# Altium integrated library Renesas Memory.IntLib: 284 symbols (part 7 of 9)
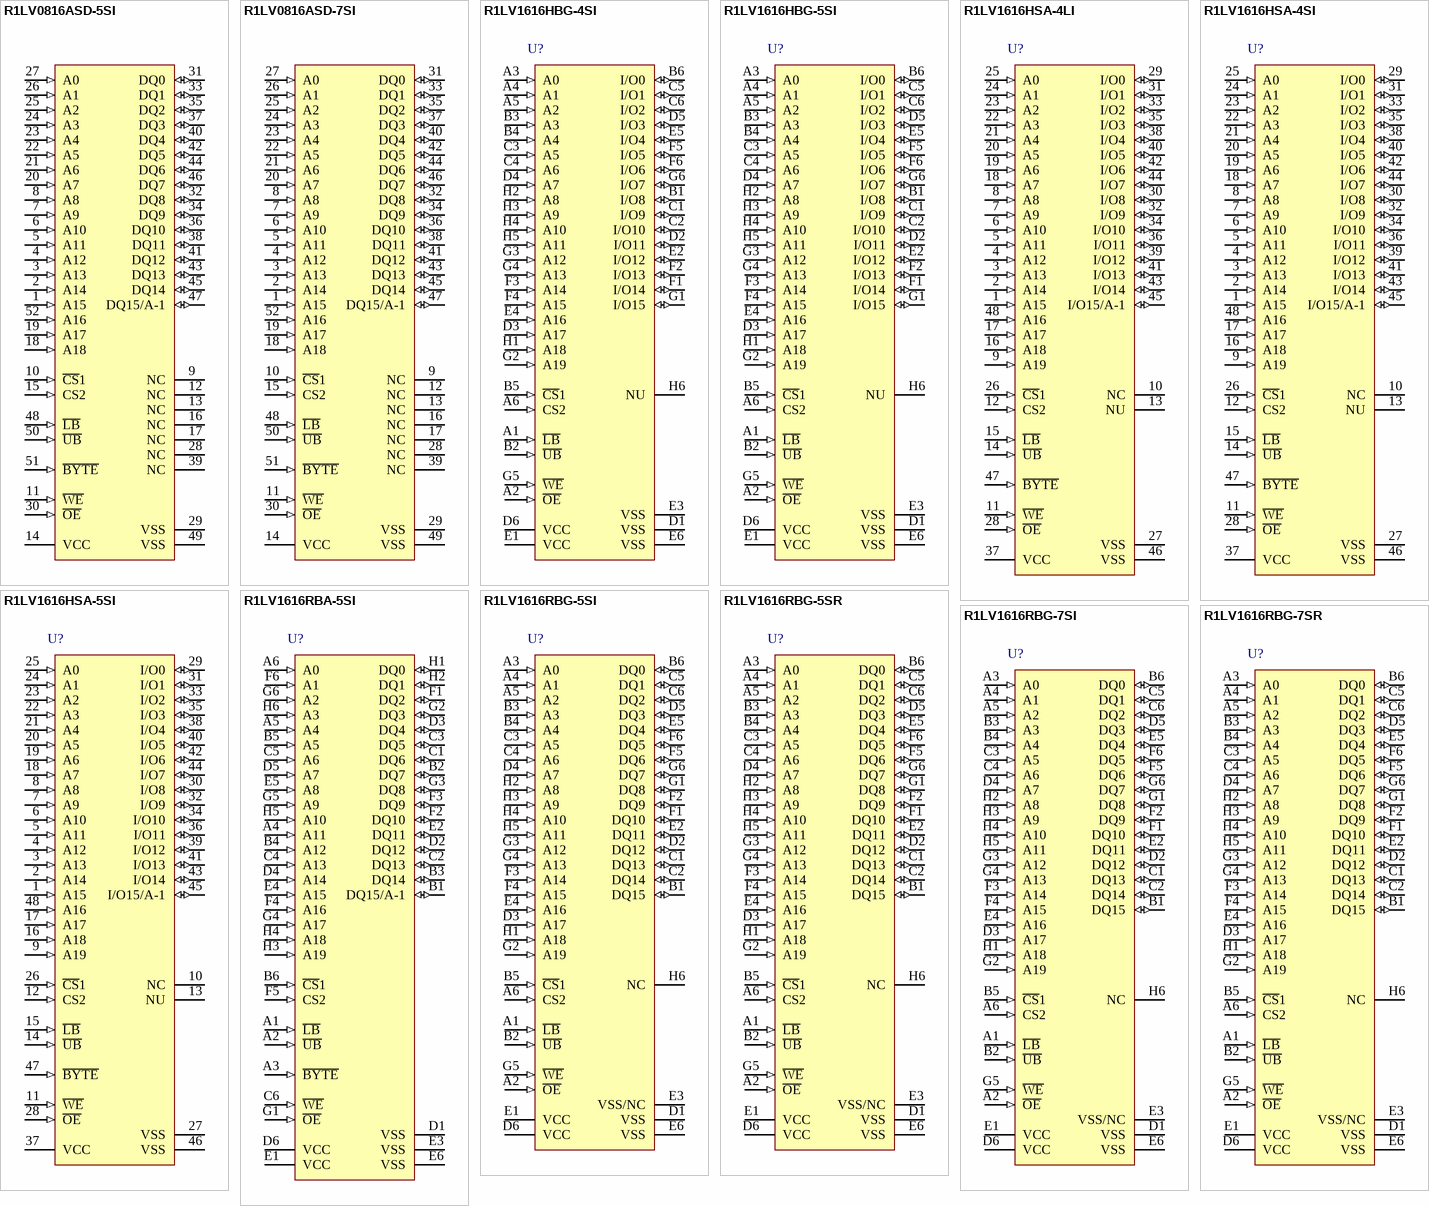
[diagram p21: symbols R1LV0816ASD-5SI to R1LV1616RBG-7SR]

## R1LV1616HSA-4SI
designator U?
R1LV1616H-I Series 16M SRAM (1-Mword x 16-bit / 2-Mword x 8-bit) Wide Temperature Range Version; Published: 3-Mar-2010; DatasheetVersion: Rev.1.01, Nov-2004; PackageVersion: Sep-2005; PackageReference: PTSA0048KA-A; Publisher: Altium Limited; PackageDescription: 48-Pin Plastic Thin Shrink Small Outline Package 0.5 mm Pitch; Code_JEITA: P-TSOP(1)48-12x18.4-0.50; ComponentLink1Description: Manufacturer Link; ComponentLink1URL: http://sg.renesas.com/products/memory/memory_category_landing.jsp; ComponentLink2Description: Datasheet; ComponentLink2URL: http://documentation.renesas.com/eng/products/memory/rej03c0195_r1lv1616hi.pdf; ComponentLink3Description: Packaging Specification; ComponentLink3URL: http://sg.renesas.com/media/products/common_info/package/pdf/ic/code/ptsa0048ka_a.pdf
footprint PTSA0048KA-A_N (TSSOP, 48-Leads, Body 12x18.4mm, Pitch 0.5mm, IPC Medium Density)
footprint PTSA0048KA-A_L (TSSOP, 48-Leads, Body 12x18.4mm, Pitch 0.5mm, IPC High Density)
footprint PTSA0048KA-A_M (TSSOP, 48-Leads, Body 12x18.4mm, Pitch 0.5mm, IPC Low Density)
pins: 1 A15 (in), 2 A14 (in), 3 A13 (in), 4 A12 (in), 5 A11 (in), 6 A10 (in), 7 A9 (in), 8 A8 (in), 9 A19 (in), 10 NC, 11 ~{WE} (in), 12 CS2 (in), 13 NU, 14 ~{UB} (in), 15 ~{LB} (in), 16 A18 (in), 17 A17 (in), 18 A7 (in), 19 A6 (in), 20 A5 (in), 21 A4 (in), 22 A3 (in), 23 A2 (in), 24 A1 (in), 25 A0 (in), 26 ~{CS}1 (in), 27 VSS (power), 28 ~{OE} (in), 29 I/O0 (io), 30 I/O8 (io), 31 I/O1 (io), 32 I/O9 (io), 33 I/O2 (io), 34 I/O10 (io), 35 I/O3 (io), 36 I/O11 (io), 37 VCC (power), 38 I/O4 (io), 39 I/O12 (io), 40 I/O5 (io), 41 I/O13 (io), 42 I/O6 (io), 43 I/O14 (io), 44 I/O7 (io), 45 I/O15/A-1 (io), 46 VSS (power), 47 ~{BYTE} (in), 48 A16 (in)

## R1LV1616HSA-5SI
designator U?
R1LV1616H-I Series 16M SRAM (1-Mword x 16-bit / 2-Mword x 8-bit) Wide Temperature Range Version; Published: 3-Mar-2010; DatasheetVersion: Rev.1.01, Nov-2004; PackageVersion: Sep-2005; PackageReference: PTSA0048KA-A; Publisher: Altium Limited; PackageDescription: 48-Pin Plastic Thin Shrink Small Outline Package 0.5 mm Pitch; Code_JEITA: P-TSOP(1)48-12x18.4-0.50; ComponentLink1Description: Manufacturer Link; ComponentLink1URL: http://sg.renesas.com/products/memory/memory_category_landing.jsp; ComponentLink2Description: Datasheet; ComponentLink2URL: http://documentation.renesas.com/eng/products/memory/rej03c0195_r1lv1616hi.pdf; ComponentLink3Description: Packaging Specification; ComponentLink3URL: http://sg.renesas.com/media/products/common_info/package/pdf/ic/code/ptsa0048ka_a.pdf
footprint PTSA0048KA-A_N (TSSOP, 48-Leads, Body 12x18.4mm, Pitch 0.5mm, IPC Medium Density)
footprint PTSA0048KA-A_L (TSSOP, 48-Leads, Body 12x18.4mm, Pitch 0.5mm, IPC High Density)
footprint PTSA0048KA-A_M (TSSOP, 48-Leads, Body 12x18.4mm, Pitch 0.5mm, IPC Low Density)
pins: 1 A15 (in), 2 A14 (in), 3 A13 (in), 4 A12 (in), 5 A11 (in), 6 A10 (in), 7 A9 (in), 8 A8 (in), 9 A19 (in), 10 NC, 11 ~{WE} (in), 12 CS2 (in), 13 NU, 14 ~{UB} (in), 15 ~{LB} (in), 16 A18 (in), 17 A17 (in), 18 A7 (in), 19 A6 (in), 20 A5 (in), 21 A4 (in), 22 A3 (in), 23 A2 (in), 24 A1 (in), 25 A0 (in), 26 ~{CS}1 (in), 27 VSS (power), 28 ~{OE} (in), 29 I/O0 (io), 30 I/O8 (io), 31 I/O1 (io), 32 I/O9 (io), 33 I/O2 (io), 34 I/O10 (io), 35 I/O3 (io), 36 I/O11 (io), 37 VCC (power), 38 I/O4 (io), 39 I/O12 (io), 40 I/O5 (io), 41 I/O13 (io), 42 I/O6 (io), 43 I/O14 (io), 44 I/O7 (io), 45 I/O15/A-1 (io), 46 VSS (power), 47 ~{BYTE} (in), 48 A16 (in)

## R1LV1616RBA-5SI
designator U?
R1LV1616R Series 16Mb Advanced LPSRAM (1M word x 16-bit / 2M word x 8-bit); Published: 3-Mar-2010; DatasheetVersion: Rev.0.01, Oct-2007; PackageVersion: 2007; PackageReference: SVBG0048ZA-A; Publisher: Altium Limited; PackageDescription: 48-Ball Wafer Level Chip Scale Package 5.62mm x 5.84mm, 0.55 mm Pitch [WL-CSP(48)]; ComponentLink1Description: Manufacturer Link; ComponentLink1URL: http://sg.renesas.com/products/memory/memory_category_landing.jsp; ComponentLink2Description: Datasheet; ComponentLink2URL: http://documentation.renesas.com/eng/products/memory/rej03c0340_r1lv1616rba5sids.pdf
footprint SVBG0048ZA-A (BGA, 48-Leads, Body 5.84x5.62mm, Pitch 0.55mm)
pins: A1 ~{LB} (in), A2 ~{UB} (in), A3 ~{BYTE} (in), A4 A11 (in), A5 A4 (in), A6 A0 (in), B1 DQ15/A-1 (io), B2 DQ7 (io), B3 DQ14 (io), B4 A12 (in), B5 A5 (in), B6 ~{CS}1 (in), C1 DQ6 (io), C2 DQ13 (io), C3 DQ5 (io), C4 A13 (in), C5 A6 (in), C6 ~{WE} (in), D1 VSS (power), D2 DQ12 (io), D3 DQ4 (io), D4 A14 (in), D5 A7 (in), D6 VCC (power), E1 VCC (power), E2 DQ11 (io), E3 VSS (power), E4 A15 (in), E5 A8 (in), E6 VSS (power), F1 DQ2 (io), F2 DQ10 (io), F3 DQ9 (io), F4 A16 (in), F5 CS2 (in), F6 A1 (in), G1 ~{OE} (in), G2 DQ3 (io), G3 DQ8 (io), G4 A17 (in), G5 A9 (in), G6 A2 (in), H1 DQ0 (io), H2 DQ1 (io), H3 A19 (in), H4 A18 (in), H5 A10 (in), H6 A3 (in)

## R1LV1616RBG-5SI
designator U?
R1LV1616R Series 16Mb Advanced LPSRAM (1M word x 16-bit / 2M word x 8-bit); Published: 3-Mar-2010; DatasheetVersion: Rev.4.00, Sep-2007; PackageVersion: Sep-2005; PackageReference: PTBG0048HB-A; Publisher: Altium Limited; PackageDescription: 48-Ball Plastic Thin Fine-Pitch BGA, 8.5 x7.5 mm Body, 0.75 mm Pitch; Code_JEITA: P-TFBGA48-7.5x8.5-0.75; ComponentLink1Description: Manufacturer Link; ComponentLink1URL: http://sg.renesas.com/products/memory/memory_category_landing.jsp; ComponentLink2Description: Datasheet; ComponentLink2URL: http://documentation.renesas.com/eng/products/memory/rej03c0101_r1lv1616r.pdf; ComponentLink3Description: Packaging Specification; ComponentLink3URL: http://sg.renesas.com/media/products/common_info/package/pdf/ic/code/ptbg0048hb_a.pdf
footprint PTBG0048HB-A (BGA, 48-Leads, Body 8.5x7.5mm, Pitch 0.75mm)
pins: A1 ~{LB} (in), A2 ~{OE} (in), A3 A0 (in), A4 A1 (in), A5 A2 (in), A6 CS2 (in), B1 DQ15 (io), B2 ~{UB} (in), B3 A3 (in), B4 A4 (in), B5 ~{CS}1 (in), B6 DQ0 (io), C1 DQ13 (io), C2 DQ14 (io), C3 A5 (in), C4 A6 (in), C5 DQ1 (io), C6 DQ2 (io), D1 VSS (power), D2 DQ12 (io), D3 A17 (in), D4 A7 (in), D5 DQ3 (io), D6 VCC (power), E1 VCC (power), E2 DQ11 (io), E3 VSS/NC, E4 A16 (in), E5 DQ4 (io), E6 VSS (power), F1 DQ10 (io), F2 DQ9 (io), F3 A14 (in), F4 A15 (in), F5 DQ6 (io), F6 DQ5 (io), G1 DQ8 (io), G2 A19 (in), G3 A12 (in), G4 A13 (in), G5 ~{WE} (in), G6 DQ7 (io), H1 A18 (in), H2 A8 (in), H3 A9 (in), H4 A10 (in), H5 A11 (in), H6 NC

## R1LV1616RBG-5SR
designator U?
R1LV1616R Series 16Mb Advanced LPSRAM (1M word x 16-bit / 2M word x 8-bit); Published: 3-Mar-2010; DatasheetVersion: Rev.4.00, Sep-2007; PackageVersion: Sep-2005; PackageReference: PTBG0048HB-A; Publisher: Altium Limited; PackageDescription: 48-Ball Plastic Thin Fine-Pitch BGA, 8.5 x7.5 mm Body, 0.75 mm Pitch; Code_JEITA: P-TFBGA48-7.5x8.5-0.75; ComponentLink1Description: Manufacturer Link; ComponentLink1URL: http://sg.renesas.com/products/memory/memory_category_landing.jsp; ComponentLink2Description: Datasheet; ComponentLink2URL: http://documentation.renesas.com/eng/products/memory/rej03c0101_r1lv1616r.pdf; ComponentLink3Description: Packaging Specification; ComponentLink3URL: http://sg.renesas.com/media/products/common_info/package/pdf/ic/code/ptbg0048hb_a.pdf
footprint PTBG0048HB-A (BGA, 48-Leads, Body 8.5x7.5mm, Pitch 0.75mm)
pins: A1 ~{LB} (in), A2 ~{OE} (in), A3 A0 (in), A4 A1 (in), A5 A2 (in), A6 CS2 (in), B1 DQ15 (io), B2 ~{UB} (in), B3 A3 (in), B4 A4 (in), B5 ~{CS}1 (in), B6 DQ0 (io), C1 DQ13 (io), C2 DQ14 (io), C3 A5 (in), C4 A6 (in), C5 DQ1 (io), C6 DQ2 (io), D1 VSS (power), D2 DQ12 (io), D3 A17 (in), D4 A7 (in), D5 DQ3 (io), D6 VCC (power), E1 VCC (power), E2 DQ11 (io), E3 VSS/NC, E4 A16 (in), E5 DQ4 (io), E6 VSS (power), F1 DQ10 (io), F2 DQ9 (io), F3 A14 (in), F4 A15 (in), F5 DQ6 (io), F6 DQ5 (io), G1 DQ8 (io), G2 A19 (in), G3 A12 (in), G4 A13 (in), G5 ~{WE} (in), G6 DQ7 (io), H1 A18 (in), H2 A8 (in), H3 A9 (in), H4 A10 (in), H5 A11 (in), H6 NC

## R1LV1616RBG-7SI
designator U?
R1LV1616R Series 16Mb Advanced LPSRAM (1M word x 16-bit / 2M word x 8-bit); Published: 3-Mar-2010; DatasheetVersion: Rev.4.00, Sep-2007; PackageVersion: Sep-2005; PackageReference: PTBG0048HB-A; Publisher: Altium Limited; PackageDescription: 48-Ball Plastic Thin Fine-Pitch BGA, 8.5 x7.5 mm Body, 0.75 mm Pitch; Code_JEITA: P-TFBGA48-7.5x8.5-0.75; ComponentLink1Description: Manufacturer Link; ComponentLink1URL: http://sg.renesas.com/products/memory/memory_category_landing.jsp; ComponentLink2Description: Datasheet; ComponentLink2URL: http://documentation.renesas.com/eng/products/memory/rej03c0101_r1lv1616r.pdf; ComponentLink3Description: Packaging Specification; ComponentLink3URL: http://sg.renesas.com/media/products/common_info/package/pdf/ic/code/ptbg0048hb_a.pdf
footprint PTBG0048HB-A (BGA, 48-Leads, Body 8.5x7.5mm, Pitch 0.75mm)
pins: A1 ~{LB} (in), A2 ~{OE} (in), A3 A0 (in), A4 A1 (in), A5 A2 (in), A6 CS2 (in), B1 DQ15 (io), B2 ~{UB} (in), B3 A3 (in), B4 A4 (in), B5 ~{CS}1 (in), B6 DQ0 (io), C1 DQ13 (io), C2 DQ14 (io), C3 A5 (in), C4 A6 (in), C5 DQ1 (io), C6 DQ2 (io), D1 VSS (power), D2 DQ12 (io), D3 A17 (in), D4 A7 (in), D5 DQ3 (io), D6 VCC (power), E1 VCC (power), E2 DQ11 (io), E3 VSS/NC, E4 A16 (in), E5 DQ4 (io), E6 VSS (power), F1 DQ10 (io), F2 DQ9 (io), F3 A14 (in), F4 A15 (in), F5 DQ6 (io), F6 DQ5 (io), G1 DQ8 (io), G2 A19 (in), G3 A12 (in), G4 A13 (in), G5 ~{WE} (in), G6 DQ7 (io), H1 A18 (in), H2 A8 (in), H3 A9 (in), H4 A10 (in), H5 A11 (in), H6 NC

## R1LV1616RBG-7SR
designator U?
R1LV1616R Series 16Mb Advanced LPSRAM (1M word x 16-bit / 2M word x 8-bit); Published: 3-Mar-2010; DatasheetVersion: Rev.4.00, Sep-2007; PackageVersion: Sep-2005; PackageReference: PTBG0048HB-A; Publisher: Altium Limited; PackageDescription: 48-Ball Plastic Thin Fine-Pitch BGA, 8.5 x7.5 mm Body, 0.75 mm Pitch; Code_JEITA: P-TFBGA48-7.5x8.5-0.75; ComponentLink1Description: Manufacturer Link; ComponentLink1URL: http://sg.renesas.com/products/memory/memory_category_landing.jsp; ComponentLink2Description: Datasheet; ComponentLink2URL: http://documentation.renesas.com/eng/products/memory/rej03c0101_r1lv1616r.pdf; ComponentLink3Description: Packaging Specification; ComponentLink3URL: http://sg.renesas.com/media/products/common_info/package/pdf/ic/code/ptbg0048hb_a.pdf
footprint PTBG0048HB-A (BGA, 48-Leads, Body 8.5x7.5mm, Pitch 0.75mm)
pins: A1 ~{LB} (in), A2 ~{OE} (in), A3 A0 (in), A4 A1 (in), A5 A2 (in), A6 CS2 (in), B1 DQ15 (io), B2 ~{UB} (in), B3 A3 (in), B4 A4 (in), B5 ~{CS}1 (in), B6 DQ0 (io), C1 DQ13 (io), C2 DQ14 (io), C3 A5 (in), C4 A6 (in), C5 DQ1 (io), C6 DQ2 (io), D1 VSS (power), D2 DQ12 (io), D3 A17 (in), D4 A7 (in), D5 DQ3 (io), D6 VCC (power), E1 VCC (power), E2 DQ11 (io), E3 VSS/NC, E4 A16 (in), E5 DQ4 (io), E6 VSS (power), F1 DQ10 (io), F2 DQ9 (io), F3 A14 (in), F4 A15 (in), F5 DQ6 (io), F6 DQ5 (io), G1 DQ8 (io), G2 A19 (in), G3 A12 (in), G4 A13 (in), G5 ~{WE} (in), G6 DQ7 (io), H1 A18 (in), H2 A8 (in), H3 A9 (in), H4 A10 (in), H5 A11 (in), H6 NC

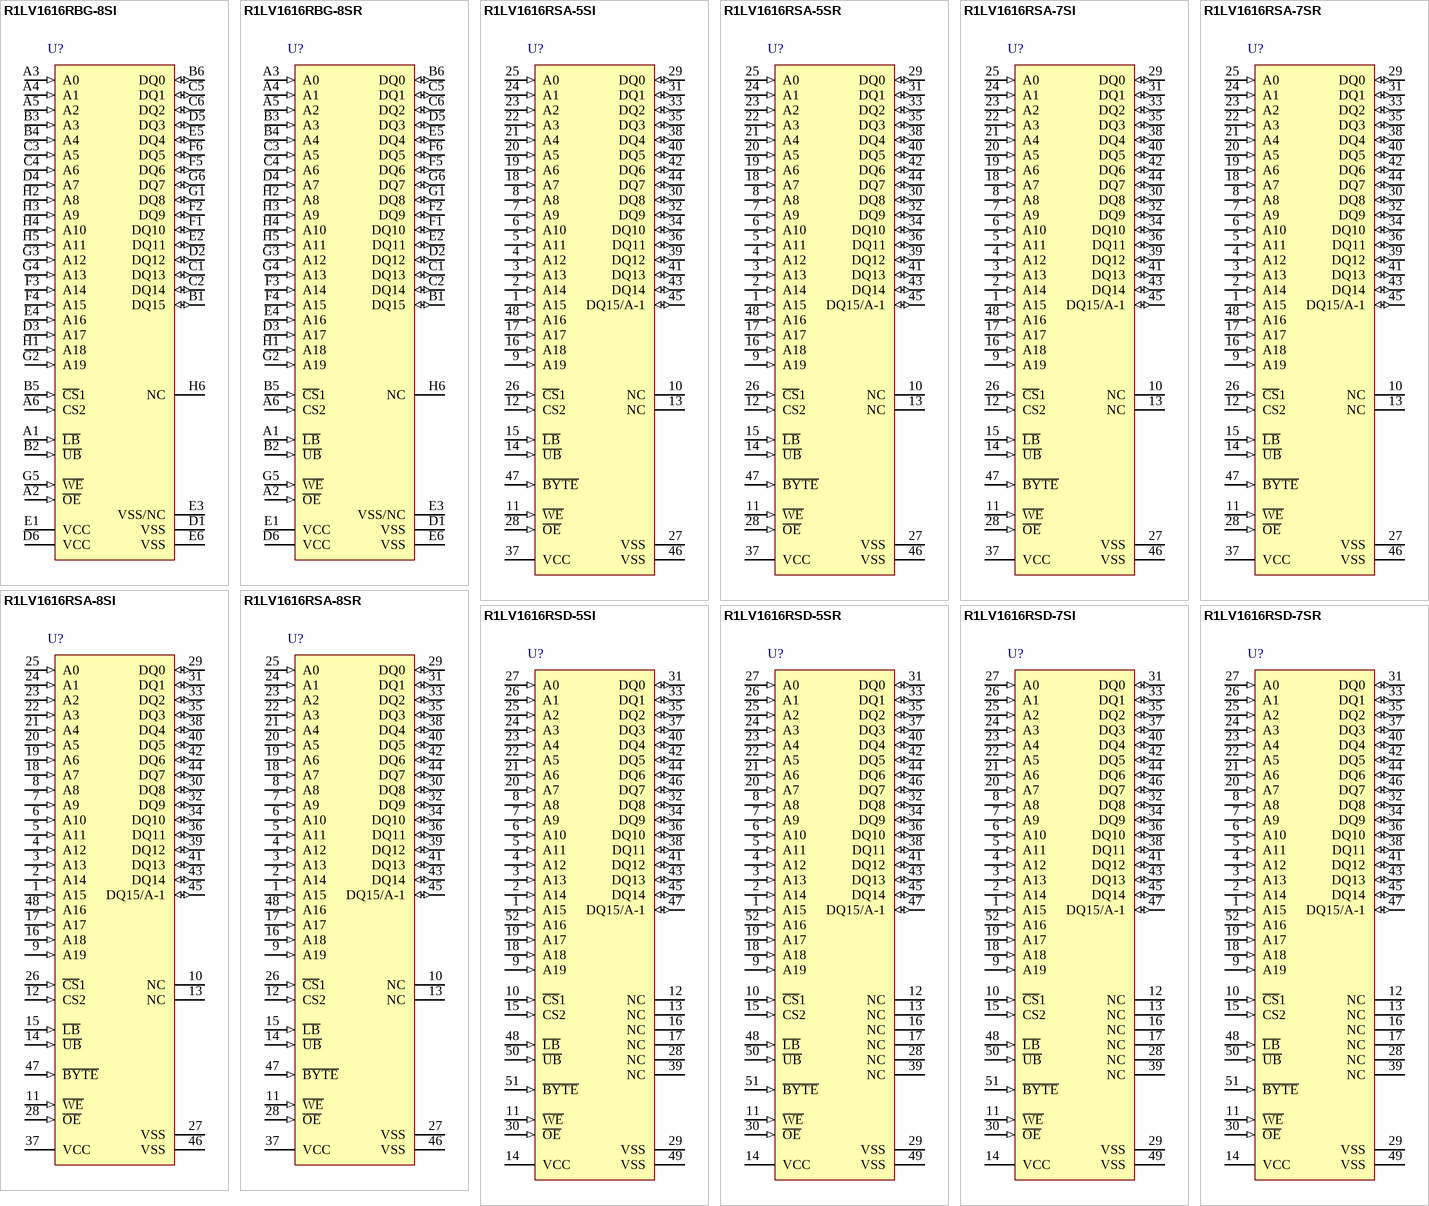
[diagram p11: symbols R1LV1616RBG-8SI to R1LV1616RSD-7SR]

## R1LV1616RBG-8SI
designator U?
R1LV1616R Series 16Mb Advanced LPSRAM (1M word x 16-bit / 2M word x 8-bit); Published: 3-Mar-2010; DatasheetVersion: Rev.4.00, Sep-2007; PackageVersion: Sep-2005; PackageReference: PTBG0048HB-A; Publisher: Altium Limited; PackageDescription: 48-Ball Plastic Thin Fine-Pitch BGA, 8.5 x7.5 mm Body, 0.75 mm Pitch; Code_JEITA: P-TFBGA48-7.5x8.5-0.75; ComponentLink1Description: Manufacturer Link; ComponentLink1URL: http://sg.renesas.com/products/memory/memory_category_landing.jsp; ComponentLink2Description: Datasheet; ComponentLink2URL: http://documentation.renesas.com/eng/products/memory/rej03c0101_r1lv1616r.pdf; ComponentLink3Description: Packaging Specification; ComponentLink3URL: http://sg.renesas.com/media/products/common_info/package/pdf/ic/code/ptbg0048hb_a.pdf
footprint PTBG0048HB-A (BGA, 48-Leads, Body 8.5x7.5mm, Pitch 0.75mm)
pins: A1 ~{LB} (in), A2 ~{OE} (in), A3 A0 (in), A4 A1 (in), A5 A2 (in), A6 CS2 (in), B1 DQ15 (io), B2 ~{UB} (in), B3 A3 (in), B4 A4 (in), B5 ~{CS}1 (in), B6 DQ0 (io), C1 DQ13 (io), C2 DQ14 (io), C3 A5 (in), C4 A6 (in), C5 DQ1 (io), C6 DQ2 (io), D1 VSS (power), D2 DQ12 (io), D3 A17 (in), D4 A7 (in), D5 DQ3 (io), D6 VCC (power), E1 VCC (power), E2 DQ11 (io), E3 VSS/NC, E4 A16 (in), E5 DQ4 (io), E6 VSS (power), F1 DQ10 (io), F2 DQ9 (io), F3 A14 (in), F4 A15 (in), F5 DQ6 (io), F6 DQ5 (io), G1 DQ8 (io), G2 A19 (in), G3 A12 (in), G4 A13 (in), G5 ~{WE} (in), G6 DQ7 (io), H1 A18 (in), H2 A8 (in), H3 A9 (in), H4 A10 (in), H5 A11 (in), H6 NC

## R1LV1616RBG-8SR
designator U?
R1LV1616R Series 16Mb Advanced LPSRAM (1M word x 16-bit / 2M word x 8-bit); Published: 3-Mar-2010; DatasheetVersion: Rev.4.00, Sep-2007; PackageVersion: Sep-2005; PackageReference: PTBG0048HB-A; Publisher: Altium Limited; PackageDescription: 48-Ball Plastic Thin Fine-Pitch BGA, 8.5 x7.5 mm Body, 0.75 mm Pitch; Code_JEITA: P-TFBGA48-7.5x8.5-0.75; ComponentLink1Description: Manufacturer Link; ComponentLink1URL: http://sg.renesas.com/products/memory/memory_category_landing.jsp; ComponentLink2Description: Datasheet; ComponentLink2URL: http://documentation.renesas.com/eng/products/memory/rej03c0101_r1lv1616r.pdf; ComponentLink3Description: Packaging Specification; ComponentLink3URL: http://sg.renesas.com/media/products/common_info/package/pdf/ic/code/ptbg0048hb_a.pdf
footprint PTBG0048HB-A (BGA, 48-Leads, Body 8.5x7.5mm, Pitch 0.75mm)
pins: A1 ~{LB} (in), A2 ~{OE} (in), A3 A0 (in), A4 A1 (in), A5 A2 (in), A6 CS2 (in), B1 DQ15 (io), B2 ~{UB} (in), B3 A3 (in), B4 A4 (in), B5 ~{CS}1 (in), B6 DQ0 (io), C1 DQ13 (io), C2 DQ14 (io), C3 A5 (in), C4 A6 (in), C5 DQ1 (io), C6 DQ2 (io), D1 VSS (power), D2 DQ12 (io), D3 A17 (in), D4 A7 (in), D5 DQ3 (io), D6 VCC (power), E1 VCC (power), E2 DQ11 (io), E3 VSS/NC, E4 A16 (in), E5 DQ4 (io), E6 VSS (power), F1 DQ10 (io), F2 DQ9 (io), F3 A14 (in), F4 A15 (in), F5 DQ6 (io), F6 DQ5 (io), G1 DQ8 (io), G2 A19 (in), G3 A12 (in), G4 A13 (in), G5 ~{WE} (in), G6 DQ7 (io), H1 A18 (in), H2 A8 (in), H3 A9 (in), H4 A10 (in), H5 A11 (in), H6 NC

## R1LV1616RSA-5SI
designator U?
R1LV1616R Series 16Mb Advanced LPSRAM (1M word x 16-bit / 2M word x 8-bit); Published: 3-Mar-2010; DatasheetVersion: Rev.4.00, Sep-2007; PackageVersion: Sep-2005; PackageReference: PTSA0048KA-A; Publisher: Altium Limited; PackageDescription: 48-Pin Plastic Thin Shrink Small Outline Package 0.5 mm Pitch; Code_JEITA: P-TSOP(1)48-12x18.4-0.50; ComponentLink1Description: Manufacturer Link; ComponentLink1URL: http://sg.renesas.com/products/memory/memory_category_landing.jsp; ComponentLink2Description: Datasheet; ComponentLink2URL: http://documentation.renesas.com/eng/products/memory/rej03c0101_r1lv1616r.pdf; ComponentLink3Description: Packaging Specification; ComponentLink3URL: http://sg.renesas.com/media/products/common_info/package/pdf/ic/code/ptsa0048ka_a.pdf
footprint PTSA0048KA-A_N (TSSOP, 48-Leads, Body 12x18.4mm, Pitch 0.5mm, IPC Medium Density)
footprint PTSA0048KA-A_L (TSSOP, 48-Leads, Body 12x18.4mm, Pitch 0.5mm, IPC High Density)
footprint PTSA0048KA-A_M (TSSOP, 48-Leads, Body 12x18.4mm, Pitch 0.5mm, IPC Low Density)
pins: 1 A15 (in), 2 A14 (in), 3 A13 (in), 4 A12 (in), 5 A11 (in), 6 A10 (in), 7 A9 (in), 8 A8 (in), 9 A19 (in), 10 NC, 11 ~{WE} (in), 12 CS2 (in), 13 NC, 14 ~{UB} (in), 15 ~{LB} (in), 16 A18 (in), 17 A17 (in), 18 A7 (in), 19 A6 (in), 20 A5 (in), 21 A4 (in), 22 A3 (in), 23 A2 (in), 24 A1 (in), 25 A0 (in), 26 ~{CS}1 (in), 27 VSS (power), 28 ~{OE} (in), 29 DQ0 (io), 30 DQ8 (io), 31 DQ1 (io), 32 DQ9 (io), 33 DQ2 (io), 34 DQ10 (io), 35 DQ3 (io), 36 DQ11 (io), 37 VCC (power), 38 DQ4 (io), 39 DQ12 (io), 40 DQ5 (io), 41 DQ13 (io), 42 DQ6 (io), 43 DQ14 (io), 44 DQ7 (io), 45 DQ15/A-1 (io), 46 VSS (power), 47 ~{BYTE} (in), 48 A16 (in)

## R1LV1616RSA-5SR
designator U?
R1LV1616R Series 16Mb Advanced LPSRAM (1M word x 16-bit / 2M word x 8-bit); Published: 3-Mar-2010; DatasheetVersion: Rev.4.00, Sep-2007; PackageVersion: Sep-2005; PackageReference: PTSA0048KA-A; Publisher: Altium Limited; PackageDescription: 48-Pin Plastic Thin Shrink Small Outline Package 0.5 mm Pitch; Code_JEITA: P-TSOP(1)48-12x18.4-0.50; ComponentLink1Description: Manufacturer Link; ComponentLink1URL: http://sg.renesas.com/products/memory/memory_category_landing.jsp; ComponentLink2Description: Datasheet; ComponentLink2URL: http://documentation.renesas.com/eng/products/memory/rej03c0101_r1lv1616r.pdf; ComponentLink3Description: Packaging Specification; ComponentLink3URL: http://sg.renesas.com/media/products/common_info/package/pdf/ic/code/ptsa0048ka_a.pdf
footprint PTSA0048KA-A_N (TSSOP, 48-Leads, Body 12x18.4mm, Pitch 0.5mm, IPC Medium Density)
footprint PTSA0048KA-A_L (TSSOP, 48-Leads, Body 12x18.4mm, Pitch 0.5mm, IPC High Density)
footprint PTSA0048KA-A_M (TSSOP, 48-Leads, Body 12x18.4mm, Pitch 0.5mm, IPC Low Density)
pins: 1 A15 (in), 2 A14 (in), 3 A13 (in), 4 A12 (in), 5 A11 (in), 6 A10 (in), 7 A9 (in), 8 A8 (in), 9 A19 (in), 10 NC, 11 ~{WE} (in), 12 CS2 (in), 13 NC, 14 ~{UB} (in), 15 ~{LB} (in), 16 A18 (in), 17 A17 (in), 18 A7 (in), 19 A6 (in), 20 A5 (in), 21 A4 (in), 22 A3 (in), 23 A2 (in), 24 A1 (in), 25 A0 (in), 26 ~{CS}1 (in), 27 VSS (power), 28 ~{OE} (in), 29 DQ0 (io), 30 DQ8 (io), 31 DQ1 (io), 32 DQ9 (io), 33 DQ2 (io), 34 DQ10 (io), 35 DQ3 (io), 36 DQ11 (io), 37 VCC (power), 38 DQ4 (io), 39 DQ12 (io), 40 DQ5 (io), 41 DQ13 (io), 42 DQ6 (io), 43 DQ14 (io), 44 DQ7 (io), 45 DQ15/A-1 (io), 46 VSS (power), 47 ~{BYTE} (in), 48 A16 (in)

## R1LV1616RSA-7SI
designator U?
R1LV1616R Series 16Mb Advanced LPSRAM (1M word x 16-bit / 2M word x 8-bit); Published: 3-Mar-2010; DatasheetVersion: Rev.4.00, Sep-2007; PackageVersion: Sep-2005; PackageReference: PTSA0048KA-A; Publisher: Altium Limited; PackageDescription: 48-Pin Plastic Thin Shrink Small Outline Package 0.5 mm Pitch; Code_JEITA: P-TSOP(1)48-12x18.4-0.50; ComponentLink1Description: Manufacturer Link; ComponentLink1URL: http://sg.renesas.com/products/memory/memory_category_landing.jsp; ComponentLink2Description: Datasheet; ComponentLink2URL: http://documentation.renesas.com/eng/products/memory/rej03c0101_r1lv1616r.pdf; ComponentLink3Description: Packaging Specification; ComponentLink3URL: http://sg.renesas.com/media/products/common_info/package/pdf/ic/code/ptsa0048ka_a.pdf
footprint PTSA0048KA-A_N (TSSOP, 48-Leads, Body 12x18.4mm, Pitch 0.5mm, IPC Medium Density)
footprint PTSA0048KA-A_L (TSSOP, 48-Leads, Body 12x18.4mm, Pitch 0.5mm, IPC High Density)
footprint PTSA0048KA-A_M (TSSOP, 48-Leads, Body 12x18.4mm, Pitch 0.5mm, IPC Low Density)
pins: 1 A15 (in), 2 A14 (in), 3 A13 (in), 4 A12 (in), 5 A11 (in), 6 A10 (in), 7 A9 (in), 8 A8 (in), 9 A19 (in), 10 NC, 11 ~{WE} (in), 12 CS2 (in), 13 NC, 14 ~{UB} (in), 15 ~{LB} (in), 16 A18 (in), 17 A17 (in), 18 A7 (in), 19 A6 (in), 20 A5 (in), 21 A4 (in), 22 A3 (in), 23 A2 (in), 24 A1 (in), 25 A0 (in), 26 ~{CS}1 (in), 27 VSS (power), 28 ~{OE} (in), 29 DQ0 (io), 30 DQ8 (io), 31 DQ1 (io), 32 DQ9 (io), 33 DQ2 (io), 34 DQ10 (io), 35 DQ3 (io), 36 DQ11 (io), 37 VCC (power), 38 DQ4 (io), 39 DQ12 (io), 40 DQ5 (io), 41 DQ13 (io), 42 DQ6 (io), 43 DQ14 (io), 44 DQ7 (io), 45 DQ15/A-1 (io), 46 VSS (power), 47 ~{BYTE} (in), 48 A16 (in)

## R1LV1616RSA-7SR
designator U?
R1LV1616R Series 16Mb Advanced LPSRAM (1M word x 16-bit / 2M word x 8-bit); Published: 3-Mar-2010; DatasheetVersion: Rev.4.00, Sep-2007; PackageVersion: Sep-2005; PackageReference: PTSA0048KA-A; Publisher: Altium Limited; PackageDescription: 48-Pin Plastic Thin Shrink Small Outline Package 0.5 mm Pitch; Code_JEITA: P-TSOP(1)48-12x18.4-0.50; ComponentLink1Description: Manufacturer Link; ComponentLink1URL: http://sg.renesas.com/products/memory/memory_category_landing.jsp; ComponentLink2Description: Datasheet; ComponentLink2URL: http://documentation.renesas.com/eng/products/memory/rej03c0101_r1lv1616r.pdf; ComponentLink3Description: Packaging Specification; ComponentLink3URL: http://sg.renesas.com/media/products/common_info/package/pdf/ic/code/ptsa0048ka_a.pdf
footprint PTSA0048KA-A_N (TSSOP, 48-Leads, Body 12x18.4mm, Pitch 0.5mm, IPC Medium Density)
footprint PTSA0048KA-A_L (TSSOP, 48-Leads, Body 12x18.4mm, Pitch 0.5mm, IPC High Density)
footprint PTSA0048KA-A_M (TSSOP, 48-Leads, Body 12x18.4mm, Pitch 0.5mm, IPC Low Density)
pins: 1 A15 (in), 2 A14 (in), 3 A13 (in), 4 A12 (in), 5 A11 (in), 6 A10 (in), 7 A9 (in), 8 A8 (in), 9 A19 (in), 10 NC, 11 ~{WE} (in), 12 CS2 (in), 13 NC, 14 ~{UB} (in), 15 ~{LB} (in), 16 A18 (in), 17 A17 (in), 18 A7 (in), 19 A6 (in), 20 A5 (in), 21 A4 (in), 22 A3 (in), 23 A2 (in), 24 A1 (in), 25 A0 (in), 26 ~{CS}1 (in), 27 VSS (power), 28 ~{OE} (in), 29 DQ0 (io), 30 DQ8 (io), 31 DQ1 (io), 32 DQ9 (io), 33 DQ2 (io), 34 DQ10 (io), 35 DQ3 (io), 36 DQ11 (io), 37 VCC (power), 38 DQ4 (io), 39 DQ12 (io), 40 DQ5 (io), 41 DQ13 (io), 42 DQ6 (io), 43 DQ14 (io), 44 DQ7 (io), 45 DQ15/A-1 (io), 46 VSS (power), 47 ~{BYTE} (in), 48 A16 (in)

## R1LV1616RSA-8SI
designator U?
R1LV1616R Series 16Mb Advanced LPSRAM (1M word x 16-bit / 2M word x 8-bit); Published: 3-Mar-2010; DatasheetVersion: Rev.4.00, Sep-2007; PackageVersion: Sep-2005; PackageReference: PTSA0048KA-A; Publisher: Altium Limited; PackageDescription: 48-Pin Plastic Thin Shrink Small Outline Package 0.5 mm Pitch; Code_JEITA: P-TSOP(1)48-12x18.4-0.50; ComponentLink1Description: Manufacturer Link; ComponentLink1URL: http://sg.renesas.com/products/memory/memory_category_landing.jsp; ComponentLink2Description: Datasheet; ComponentLink2URL: http://documentation.renesas.com/eng/products/memory/rej03c0101_r1lv1616r.pdf; ComponentLink3Description: Packaging Specification; ComponentLink3URL: http://sg.renesas.com/media/products/common_info/package/pdf/ic/code/ptsa0048ka_a.pdf
footprint PTSA0048KA-A_N (TSSOP, 48-Leads, Body 12x18.4mm, Pitch 0.5mm, IPC Medium Density)
footprint PTSA0048KA-A_L (TSSOP, 48-Leads, Body 12x18.4mm, Pitch 0.5mm, IPC High Density)
footprint PTSA0048KA-A_M (TSSOP, 48-Leads, Body 12x18.4mm, Pitch 0.5mm, IPC Low Density)
pins: 1 A15 (in), 2 A14 (in), 3 A13 (in), 4 A12 (in), 5 A11 (in), 6 A10 (in), 7 A9 (in), 8 A8 (in), 9 A19 (in), 10 NC, 11 ~{WE} (in), 12 CS2 (in), 13 NC, 14 ~{UB} (in), 15 ~{LB} (in), 16 A18 (in), 17 A17 (in), 18 A7 (in), 19 A6 (in), 20 A5 (in), 21 A4 (in), 22 A3 (in), 23 A2 (in), 24 A1 (in), 25 A0 (in), 26 ~{CS}1 (in), 27 VSS (power), 28 ~{OE} (in), 29 DQ0 (io), 30 DQ8 (io), 31 DQ1 (io), 32 DQ9 (io), 33 DQ2 (io), 34 DQ10 (io), 35 DQ3 (io), 36 DQ11 (io), 37 VCC (power), 38 DQ4 (io), 39 DQ12 (io), 40 DQ5 (io), 41 DQ13 (io), 42 DQ6 (io), 43 DQ14 (io), 44 DQ7 (io), 45 DQ15/A-1 (io), 46 VSS (power), 47 ~{BYTE} (in), 48 A16 (in)

## R1LV1616RSA-8SR
designator U?
R1LV1616R Series 16Mb Advanced LPSRAM (1M word x 16-bit / 2M word x 8-bit); Published: 3-Mar-2010; DatasheetVersion: Rev.4.00, Sep-2007; PackageVersion: Sep-2005; PackageReference: PTSA0048KA-A; Publisher: Altium Limited; PackageDescription: 48-Pin Plastic Thin Shrink Small Outline Package 0.5 mm Pitch; Code_JEITA: P-TSOP(1)48-12x18.4-0.50; ComponentLink1Description: Manufacturer Link; ComponentLink1URL: http://sg.renesas.com/products/memory/memory_category_landing.jsp; ComponentLink2Description: Datasheet; ComponentLink2URL: http://documentation.renesas.com/eng/products/memory/rej03c0101_r1lv1616r.pdf; ComponentLink3Description: Packaging Specification; ComponentLink3URL: http://sg.renesas.com/media/products/common_info/package/pdf/ic/code/ptsa0048ka_a.pdf
footprint PTSA0048KA-A_N (TSSOP, 48-Leads, Body 12x18.4mm, Pitch 0.5mm, IPC Medium Density)
footprint PTSA0048KA-A_L (TSSOP, 48-Leads, Body 12x18.4mm, Pitch 0.5mm, IPC High Density)
footprint PTSA0048KA-A_M (TSSOP, 48-Leads, Body 12x18.4mm, Pitch 0.5mm, IPC Low Density)
pins: 1 A15 (in), 2 A14 (in), 3 A13 (in), 4 A12 (in), 5 A11 (in), 6 A10 (in), 7 A9 (in), 8 A8 (in), 9 A19 (in), 10 NC, 11 ~{WE} (in), 12 CS2 (in), 13 NC, 14 ~{UB} (in), 15 ~{LB} (in), 16 A18 (in), 17 A17 (in), 18 A7 (in), 19 A6 (in), 20 A5 (in), 21 A4 (in), 22 A3 (in), 23 A2 (in), 24 A1 (in), 25 A0 (in), 26 ~{CS}1 (in), 27 VSS (power), 28 ~{OE} (in), 29 DQ0 (io), 30 DQ8 (io), 31 DQ1 (io), 32 DQ9 (io), 33 DQ2 (io), 34 DQ10 (io), 35 DQ3 (io), 36 DQ11 (io), 37 VCC (power), 38 DQ4 (io), 39 DQ12 (io), 40 DQ5 (io), 41 DQ13 (io), 42 DQ6 (io), 43 DQ14 (io), 44 DQ7 (io), 45 DQ15/A-1 (io), 46 VSS (power), 47 ~{BYTE} (in), 48 A16 (in)

## R1LV1616RSD-5SI
designator U?
R1LV1616R Series 16Mb Advanced LPSRAM (1M word x 16-bit / 2M word x 8-bit); Published: 3-Mar-2010; DatasheetVersion: Rev.4.00, Sep-2007; PackageVersion: Sep-2005; PackageReference: PTSB0052LB-A; Publisher: Altium Limited; PackageDescription: 52-Pin Thin Shrink Small Outline Package 0.4 mm Pitch; Code_JEITA: P-TSOP(2)52-8.89x10.79-0.40; ComponentLink1Description: Manufacturer Link; ComponentLink1URL: http://sg.renesas.com/products/memory/memory_category_landing.jsp; ComponentLink2Description: Datasheet; ComponentLink2URL: http://documentation.renesas.com/eng/products/memory/rej03c0101_r1lv1616r.pdf; ComponentLink3Description: Packaging Specification; ComponentLink3URL: http://sg.renesas.com/media/products/common_info/package/pdf/ic/code/ptsb0052lb_a.pdf
footprint PTSB0052LB-A_N (TSSOP, 52-Leads, Body 10.8x8.9mm, Pitch 0.4mm, IPC Medium Density)
footprint PTSB0052LB-A_L (TSSOP, 52-Leads, Body 10.8x8.9mm, Pitch 0.4mm, IPC High Density)
footprint PTSB0052LB-A_M (TSSOP, 52-Leads, Body 10.8x8.9mm, Pitch 0.4mm, IPC Low Density)
pins: 1 A15 (in), 2 A14 (in), 3 A13 (in), 4 A12 (in), 5 A11 (in), 6 A10 (in), 7 A9 (in), 8 A8 (in), 9 A19 (in), 10 ~{CS}1 (in), 11 ~{WE} (in), 12 NC, 13 NC, 14 VCC (power), 15 CS2 (in), 16 NC, 17 NC, 18 A18 (in), 19 A17 (in), 20 A7 (in), 21 A6 (in), 22 A5 (in), 23 A4 (in), 24 A3 (in), 25 A2 (in), 26 A1 (in), 27 A0 (in), 28 NC, 29 VSS (power), 30 ~{OE} (in), 31 DQ0 (io), 32 DQ8 (io), 33 DQ1 (io), 34 DQ9 (io), 35 DQ2 (io), 36 DQ10 (io), 37 DQ3 (io), 38 DQ11 (io), 39 NC, 40 DQ4 (io), 41 DQ12 (io), 42 DQ5 (io), 43 DQ13 (io), 44 DQ6 (io), 45 DQ14 (io), 46 DQ7 (io), 47 DQ15/A-1 (io), 48 ~{LB} (in), 49 VSS (power), 50 ~{UB} (in), 51 ~{BYTE} (in), 52 A16 (in)

## R1LV1616RSD-5SR
designator U?
R1LV1616R Series 16Mb Advanced LPSRAM (1M word x 16-bit / 2M word x 8-bit); Published: 3-Mar-2010; DatasheetVersion: Rev.4.00, Sep-2007; PackageVersion: Sep-2005; PackageReference: PTSB0052LB-A; Publisher: Altium Limited; PackageDescription: 52-Pin Thin Shrink Small Outline Package 0.4 mm Pitch; Code_JEITA: P-TSOP(2)52-8.89x10.79-0.40; ComponentLink1Description: Manufacturer Link; ComponentLink1URL: http://sg.renesas.com/products/memory/memory_category_landing.jsp; ComponentLink2Description: Datasheet; ComponentLink2URL: http://documentation.renesas.com/eng/products/memory/rej03c0101_r1lv1616r.pdf; ComponentLink3Description: Packaging Specification; ComponentLink3URL: http://sg.renesas.com/media/products/common_info/package/pdf/ic/code/ptsb0052lb_a.pdf
footprint PTSB0052LB-A_N (TSSOP, 52-Leads, Body 10.8x8.9mm, Pitch 0.4mm, IPC Medium Density)
footprint PTSB0052LB-A_L (TSSOP, 52-Leads, Body 10.8x8.9mm, Pitch 0.4mm, IPC High Density)
footprint PTSB0052LB-A_M (TSSOP, 52-Leads, Body 10.8x8.9mm, Pitch 0.4mm, IPC Low Density)
pins: 1 A15 (in), 2 A14 (in), 3 A13 (in), 4 A12 (in), 5 A11 (in), 6 A10 (in), 7 A9 (in), 8 A8 (in), 9 A19 (in), 10 ~{CS}1 (in), 11 ~{WE} (in), 12 NC, 13 NC, 14 VCC (power), 15 CS2 (in), 16 NC, 17 NC, 18 A18 (in), 19 A17 (in), 20 A7 (in), 21 A6 (in), 22 A5 (in), 23 A4 (in), 24 A3 (in), 25 A2 (in), 26 A1 (in), 27 A0 (in), 28 NC, 29 VSS (power), 30 ~{OE} (in), 31 DQ0 (io), 32 DQ8 (io), 33 DQ1 (io), 34 DQ9 (io), 35 DQ2 (io), 36 DQ10 (io), 37 DQ3 (io), 38 DQ11 (io), 39 NC, 40 DQ4 (io), 41 DQ12 (io), 42 DQ5 (io), 43 DQ13 (io), 44 DQ6 (io), 45 DQ14 (io), 46 DQ7 (io), 47 DQ15/A-1 (io), 48 ~{LB} (in), 49 VSS (power), 50 ~{UB} (in), 51 ~{BYTE} (in), 52 A16 (in)

## R1LV1616RSD-7SI
designator U?
R1LV1616R Series 16Mb Advanced LPSRAM (1M word x 16-bit / 2M word x 8-bit); Published: 3-Mar-2010; DatasheetVersion: Rev.4.00, Sep-2007; PackageVersion: Sep-2005; PackageReference: PTSB0052LB-A; Publisher: Altium Limited; PackageDescription: 52-Pin Thin Shrink Small Outline Package 0.4 mm Pitch; Code_JEITA: P-TSOP(2)52-8.89x10.79-0.40; ComponentLink1Description: Manufacturer Link; ComponentLink1URL: http://sg.renesas.com/products/memory/memory_category_landing.jsp; ComponentLink2Description: Datasheet; ComponentLink2URL: http://documentation.renesas.com/eng/products/memory/rej03c0101_r1lv1616r.pdf; ComponentLink3Description: Packaging Specification; ComponentLink3URL: http://sg.renesas.com/media/products/common_info/package/pdf/ic/code/ptsb0052lb_a.pdf
footprint PTSB0052LB-A_N (TSSOP, 52-Leads, Body 10.8x8.9mm, Pitch 0.4mm, IPC Medium Density)
footprint PTSB0052LB-A_L (TSSOP, 52-Leads, Body 10.8x8.9mm, Pitch 0.4mm, IPC High Density)
footprint PTSB0052LB-A_M (TSSOP, 52-Leads, Body 10.8x8.9mm, Pitch 0.4mm, IPC Low Density)
pins: 1 A15 (in), 2 A14 (in), 3 A13 (in), 4 A12 (in), 5 A11 (in), 6 A10 (in), 7 A9 (in), 8 A8 (in), 9 A19 (in), 10 ~{CS}1 (in), 11 ~{WE} (in), 12 NC, 13 NC, 14 VCC (power), 15 CS2 (in), 16 NC, 17 NC, 18 A18 (in), 19 A17 (in), 20 A7 (in), 21 A6 (in), 22 A5 (in), 23 A4 (in), 24 A3 (in), 25 A2 (in), 26 A1 (in), 27 A0 (in), 28 NC, 29 VSS (power), 30 ~{OE} (in), 31 DQ0 (io), 32 DQ8 (io), 33 DQ1 (io), 34 DQ9 (io), 35 DQ2 (io), 36 DQ10 (io), 37 DQ3 (io), 38 DQ11 (io), 39 NC, 40 DQ4 (io), 41 DQ12 (io), 42 DQ5 (io), 43 DQ13 (io), 44 DQ6 (io), 45 DQ14 (io), 46 DQ7 (io), 47 DQ15/A-1 (io), 48 ~{LB} (in), 49 VSS (power), 50 ~{UB} (in), 51 ~{BYTE} (in), 52 A16 (in)

## R1LV1616RSD-7SR
designator U?
R1LV1616R Series 16Mb Advanced LPSRAM (1M word x 16-bit / 2M word x 8-bit); Published: 3-Mar-2010; DatasheetVersion: Rev.4.00, Sep-2007; PackageVersion: Sep-2005; PackageReference: PTSB0052LB-A; Publisher: Altium Limited; PackageDescription: 52-Pin Thin Shrink Small Outline Package 0.4 mm Pitch; Code_JEITA: P-TSOP(2)52-8.89x10.79-0.40; ComponentLink1Description: Manufacturer Link; ComponentLink1URL: http://sg.renesas.com/products/memory/memory_category_landing.jsp; ComponentLink2Description: Datasheet; ComponentLink2URL: http://documentation.renesas.com/eng/products/memory/rej03c0101_r1lv1616r.pdf; ComponentLink3Description: Packaging Specification; ComponentLink3URL: http://sg.renesas.com/media/products/common_info/package/pdf/ic/code/ptsb0052lb_a.pdf
footprint PTSB0052LB-A_N (TSSOP, 52-Leads, Body 10.8x8.9mm, Pitch 0.4mm, IPC Medium Density)
footprint PTSB0052LB-A_L (TSSOP, 52-Leads, Body 10.8x8.9mm, Pitch 0.4mm, IPC High Density)
footprint PTSB0052LB-A_M (TSSOP, 52-Leads, Body 10.8x8.9mm, Pitch 0.4mm, IPC Low Density)
pins: 1 A15 (in), 2 A14 (in), 3 A13 (in), 4 A12 (in), 5 A11 (in), 6 A10 (in), 7 A9 (in), 8 A8 (in), 9 A19 (in), 10 ~{CS}1 (in), 11 ~{WE} (in), 12 NC, 13 NC, 14 VCC (power), 15 CS2 (in), 16 NC, 17 NC, 18 A18 (in), 19 A17 (in), 20 A7 (in), 21 A6 (in), 22 A5 (in), 23 A4 (in), 24 A3 (in), 25 A2 (in), 26 A1 (in), 27 A0 (in), 28 NC, 29 VSS (power), 30 ~{OE} (in), 31 DQ0 (io), 32 DQ8 (io), 33 DQ1 (io), 34 DQ9 (io), 35 DQ2 (io), 36 DQ10 (io), 37 DQ3 (io), 38 DQ11 (io), 39 NC, 40 DQ4 (io), 41 DQ12 (io), 42 DQ5 (io), 43 DQ13 (io), 44 DQ6 (io), 45 DQ14 (io), 46 DQ7 (io), 47 DQ15/A-1 (io), 48 ~{LB} (in), 49 VSS (power), 50 ~{UB} (in), 51 ~{BYTE} (in), 52 A16 (in)

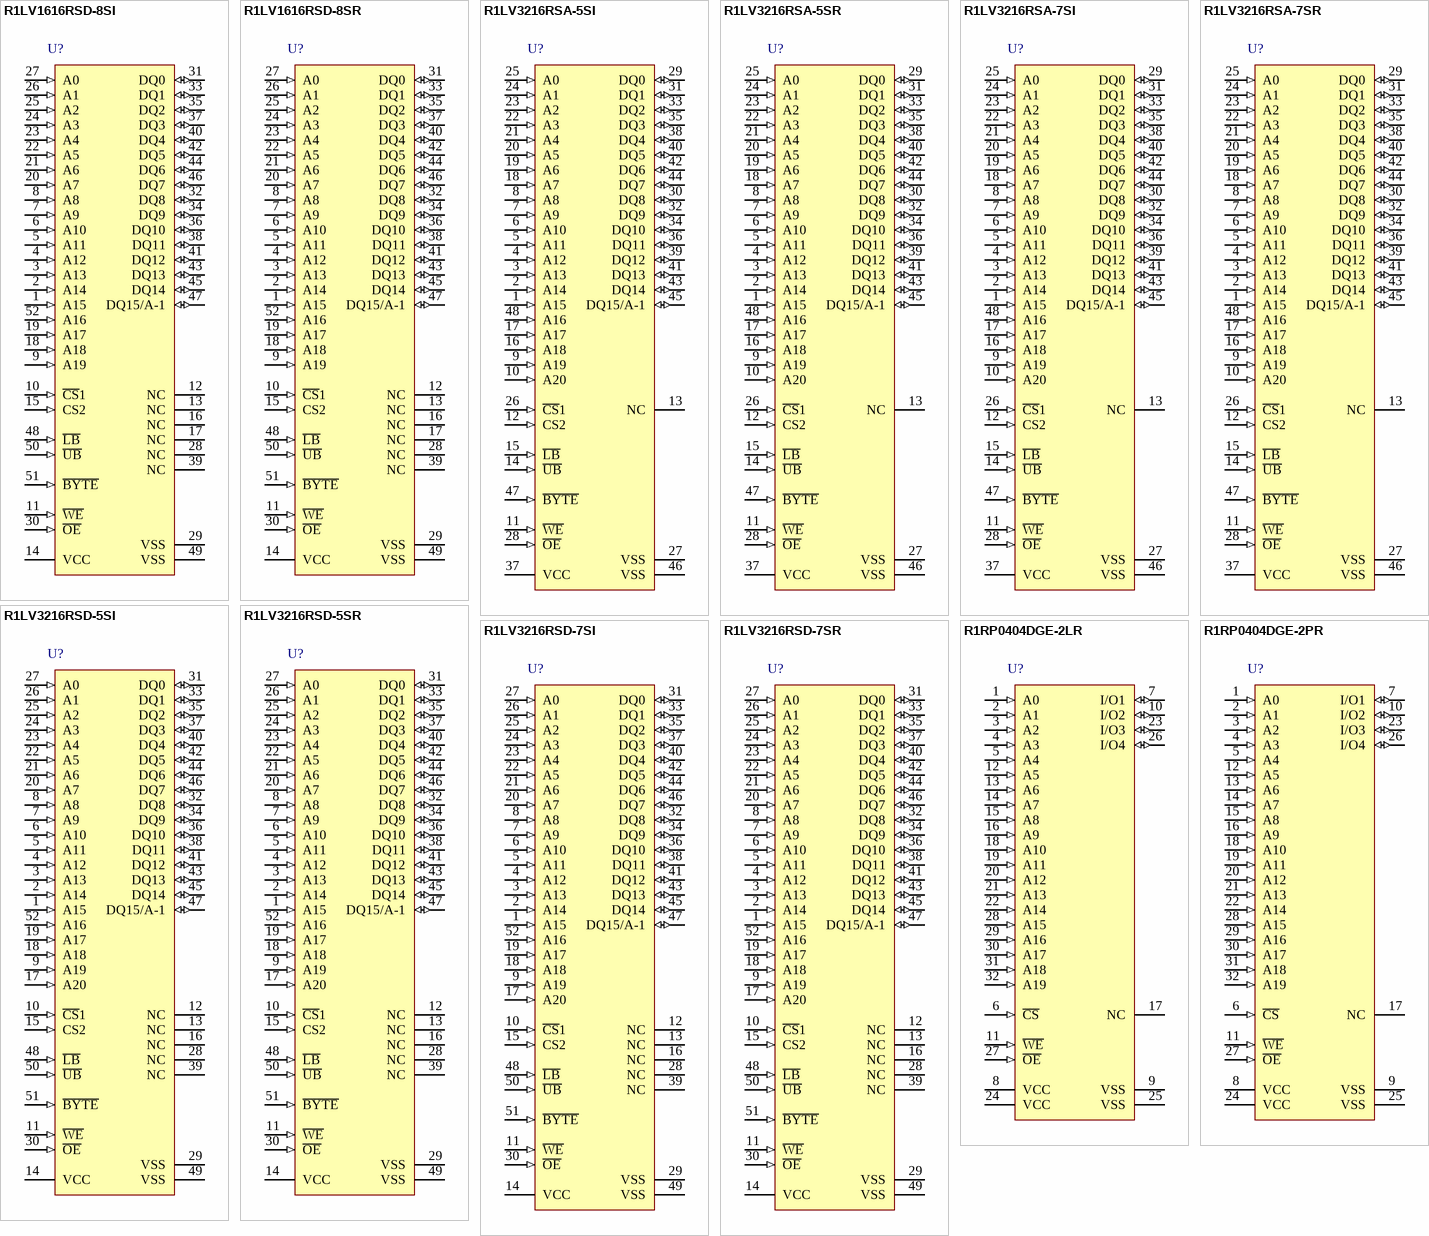
[diagram p12: symbols R1LV1616RSD-8SI to R1RP0404DGE-2PR]

## R1LV1616RSD-8SI
designator U?
R1LV1616R Series 16Mb Advanced LPSRAM (1M word x 16-bit / 2M word x 8-bit); Published: 3-Mar-2010; DatasheetVersion: Rev.4.00, Sep-2007; PackageVersion: Sep-2005; PackageReference: PTSB0052LB-A; Publisher: Altium Limited; PackageDescription: 52-Pin Thin Shrink Small Outline Package 0.4 mm Pitch; Code_JEITA: P-TSOP(2)52-8.89x10.79-0.40; ComponentLink1Description: Manufacturer Link; ComponentLink1URL: http://sg.renesas.com/products/memory/memory_category_landing.jsp; ComponentLink2Description: Datasheet; ComponentLink2URL: http://documentation.renesas.com/eng/products/memory/rej03c0101_r1lv1616r.pdf; ComponentLink3Description: Packaging Specification; ComponentLink3URL: http://sg.renesas.com/media/products/common_info/package/pdf/ic/code/ptsb0052lb_a.pdf
footprint PTSB0052LB-A_N (TSSOP, 52-Leads, Body 10.8x8.9mm, Pitch 0.4mm, IPC Medium Density)
footprint PTSB0052LB-A_L (TSSOP, 52-Leads, Body 10.8x8.9mm, Pitch 0.4mm, IPC High Density)
footprint PTSB0052LB-A_M (TSSOP, 52-Leads, Body 10.8x8.9mm, Pitch 0.4mm, IPC Low Density)
pins: 1 A15 (in), 2 A14 (in), 3 A13 (in), 4 A12 (in), 5 A11 (in), 6 A10 (in), 7 A9 (in), 8 A8 (in), 9 A19 (in), 10 ~{CS}1 (in), 11 ~{WE} (in), 12 NC, 13 NC, 14 VCC (power), 15 CS2 (in), 16 NC, 17 NC, 18 A18 (in), 19 A17 (in), 20 A7 (in), 21 A6 (in), 22 A5 (in), 23 A4 (in), 24 A3 (in), 25 A2 (in), 26 A1 (in), 27 A0 (in), 28 NC, 29 VSS (power), 30 ~{OE} (in), 31 DQ0 (io), 32 DQ8 (io), 33 DQ1 (io), 34 DQ9 (io), 35 DQ2 (io), 36 DQ10 (io), 37 DQ3 (io), 38 DQ11 (io), 39 NC, 40 DQ4 (io), 41 DQ12 (io), 42 DQ5 (io), 43 DQ13 (io), 44 DQ6 (io), 45 DQ14 (io), 46 DQ7 (io), 47 DQ15/A-1 (io), 48 ~{LB} (in), 49 VSS (power), 50 ~{UB} (in), 51 ~{BYTE} (in), 52 A16 (in)

## R1LV1616RSD-8SR
designator U?
R1LV1616R Series 16Mb Advanced LPSRAM (1M word x 16-bit / 2M word x 8-bit); Published: 3-Mar-2010; DatasheetVersion: Rev.4.00, Sep-2007; PackageVersion: Sep-2005; PackageReference: PTSB0052LB-A; Publisher: Altium Limited; PackageDescription: 52-Pin Thin Shrink Small Outline Package 0.4 mm Pitch; Code_JEITA: P-TSOP(2)52-8.89x10.79-0.40; ComponentLink1Description: Manufacturer Link; ComponentLink1URL: http://sg.renesas.com/products/memory/memory_category_landing.jsp; ComponentLink2Description: Datasheet; ComponentLink2URL: http://documentation.renesas.com/eng/products/memory/rej03c0101_r1lv1616r.pdf; ComponentLink3Description: Packaging Specification; ComponentLink3URL: http://sg.renesas.com/media/products/common_info/package/pdf/ic/code/ptsb0052lb_a.pdf
footprint PTSB0052LB-A_N (TSSOP, 52-Leads, Body 10.8x8.9mm, Pitch 0.4mm, IPC Medium Density)
footprint PTSB0052LB-A_L (TSSOP, 52-Leads, Body 10.8x8.9mm, Pitch 0.4mm, IPC High Density)
footprint PTSB0052LB-A_M (TSSOP, 52-Leads, Body 10.8x8.9mm, Pitch 0.4mm, IPC Low Density)
pins: 1 A15 (in), 2 A14 (in), 3 A13 (in), 4 A12 (in), 5 A11 (in), 6 A10 (in), 7 A9 (in), 8 A8 (in), 9 A19 (in), 10 ~{CS}1 (in), 11 ~{WE} (in), 12 NC, 13 NC, 14 VCC (power), 15 CS2 (in), 16 NC, 17 NC, 18 A18 (in), 19 A17 (in), 20 A7 (in), 21 A6 (in), 22 A5 (in), 23 A4 (in), 24 A3 (in), 25 A2 (in), 26 A1 (in), 27 A0 (in), 28 NC, 29 VSS (power), 30 ~{OE} (in), 31 DQ0 (io), 32 DQ8 (io), 33 DQ1 (io), 34 DQ9 (io), 35 DQ2 (io), 36 DQ10 (io), 37 DQ3 (io), 38 DQ11 (io), 39 NC, 40 DQ4 (io), 41 DQ12 (io), 42 DQ5 (io), 43 DQ13 (io), 44 DQ6 (io), 45 DQ14 (io), 46 DQ7 (io), 47 DQ15/A-1 (io), 48 ~{LB} (in), 49 VSS (power), 50 ~{UB} (in), 51 ~{BYTE} (in), 52 A16 (in)

## R1LV3216RSA-5SI
designator U?
R1LV3216R Series 32Mb Advanced LPSRAM (2M word x 16bit / 4M word x 8bit); Published: 3-Mar-2010; DatasheetVersion: Rev.1.00, May-2009; PackageVersion: Sep-2005; PackageReference: PTSA0048KA-A; Publisher: Altium Limited; PackageDescription: 48-Pin Plastic Thin Shrink Small Outline Package 0.5 mm Pitch; Code_JEITA: P-TSOP(1)48-12x18.4-0.50; ComponentLink1Description: Manufacturer Link; ComponentLink1URL: http://sg.renesas.com/products/memory/memory_category_landing.jsp; ComponentLink2Description: Datasheet; ComponentLink2URL: http://documentation.renesas.com/eng/products/memory/rej03c0367_r1lv3216rds.pdf; ComponentLink3Description: Packaging Specification; ComponentLink3URL: http://sg.renesas.com/media/products/common_info/package/pdf/ic/code/ptsa0048ka_a.pdf
footprint PTSA0048KA-A_N (TSSOP, 48-Leads, Body 12x18.4mm, Pitch 0.5mm, IPC Medium Density)
footprint PTSA0048KA-A_L (TSSOP, 48-Leads, Body 12x18.4mm, Pitch 0.5mm, IPC High Density)
footprint PTSA0048KA-A_M (TSSOP, 48-Leads, Body 12x18.4mm, Pitch 0.5mm, IPC Low Density)
pins: 1 A15 (in), 2 A14 (in), 3 A13 (in), 4 A12 (in), 5 A11 (in), 6 A10 (in), 7 A9 (in), 8 A8 (in), 9 A19 (in), 10 A20 (in), 11 ~{WE} (in), 12 CS2 (in), 13 NC, 14 ~{UB} (in), 15 ~{LB} (in), 16 A18 (in), 17 A17 (in), 18 A7 (in), 19 A6 (in), 20 A5 (in), 21 A4 (in), 22 A3 (in), 23 A2 (in), 24 A1 (in), 25 A0 (in), 26 ~{CS}1 (in), 27 VSS (power), 28 ~{OE} (in), 29 DQ0 (io), 30 DQ8 (io), 31 DQ1 (io), 32 DQ9 (io), 33 DQ2 (io), 34 DQ10 (io), 35 DQ3 (io), 36 DQ11 (io), 37 VCC (power), 38 DQ4 (io), 39 DQ12 (io), 40 DQ5 (io), 41 DQ13 (io), 42 DQ6 (io), 43 DQ14 (io), 44 DQ7 (io), 45 DQ15/A-1 (io), 46 VSS (power), 47 ~{BYTE} (in), 48 A16 (in)

## R1LV3216RSA-5SR
designator U?
R1LV3216R Series 32Mb Advanced LPSRAM (2M word x 16bit / 4M word x 8bit); Published: 3-Mar-2010; DatasheetVersion: Rev.1.00, May-2009; PackageVersion: Sep-2005; PackageReference: PTSA0048KA-A; Publisher: Altium Limited; PackageDescription: 48-Pin Plastic Thin Shrink Small Outline Package 0.5 mm Pitch; Code_JEITA: P-TSOP(1)48-12x18.4-0.50; ComponentLink1Description: Manufacturer Link; ComponentLink1URL: http://sg.renesas.com/products/memory/memory_category_landing.jsp; ComponentLink2Description: Datasheet; ComponentLink2URL: http://documentation.renesas.com/eng/products/memory/rej03c0367_r1lv3216rds.pdf; ComponentLink3Description: Packaging Specification; ComponentLink3URL: http://sg.renesas.com/media/products/common_info/package/pdf/ic/code/ptsa0048ka_a.pdf
footprint PTSA0048KA-A_N (TSSOP, 48-Leads, Body 12x18.4mm, Pitch 0.5mm, IPC Medium Density)
footprint PTSA0048KA-A_L (TSSOP, 48-Leads, Body 12x18.4mm, Pitch 0.5mm, IPC High Density)
footprint PTSA0048KA-A_M (TSSOP, 48-Leads, Body 12x18.4mm, Pitch 0.5mm, IPC Low Density)
pins: 1 A15 (in), 2 A14 (in), 3 A13 (in), 4 A12 (in), 5 A11 (in), 6 A10 (in), 7 A9 (in), 8 A8 (in), 9 A19 (in), 10 A20 (in), 11 ~{WE} (in), 12 CS2 (in), 13 NC, 14 ~{UB} (in), 15 ~{LB} (in), 16 A18 (in), 17 A17 (in), 18 A7 (in), 19 A6 (in), 20 A5 (in), 21 A4 (in), 22 A3 (in), 23 A2 (in), 24 A1 (in), 25 A0 (in), 26 ~{CS}1 (in), 27 VSS (power), 28 ~{OE} (in), 29 DQ0 (io), 30 DQ8 (io), 31 DQ1 (io), 32 DQ9 (io), 33 DQ2 (io), 34 DQ10 (io), 35 DQ3 (io), 36 DQ11 (io), 37 VCC (power), 38 DQ4 (io), 39 DQ12 (io), 40 DQ5 (io), 41 DQ13 (io), 42 DQ6 (io), 43 DQ14 (io), 44 DQ7 (io), 45 DQ15/A-1 (io), 46 VSS (power), 47 ~{BYTE} (in), 48 A16 (in)

## R1LV3216RSA-7SI
designator U?
R1LV3216R Series 32Mb Advanced LPSRAM (2M word x 16bit / 4M word x 8bit); Published: 3-Mar-2010; DatasheetVersion: Rev.1.00, May-2009; PackageVersion: Sep-2005; PackageReference: PTSA0048KA-A; Publisher: Altium Limited; PackageDescription: 48-Pin Plastic Thin Shrink Small Outline Package 0.5 mm Pitch; Code_JEITA: P-TSOP(1)48-12x18.4-0.50; ComponentLink1Description: Manufacturer Link; ComponentLink1URL: http://sg.renesas.com/products/memory/memory_category_landing.jsp; ComponentLink2Description: Datasheet; ComponentLink2URL: http://documentation.renesas.com/eng/products/memory/rej03c0367_r1lv3216rds.pdf; ComponentLink3Description: Packaging Specification; ComponentLink3URL: http://sg.renesas.com/media/products/common_info/package/pdf/ic/code/ptsa0048ka_a.pdf
footprint PTSA0048KA-A_N (TSSOP, 48-Leads, Body 12x18.4mm, Pitch 0.5mm, IPC Medium Density)
footprint PTSA0048KA-A_L (TSSOP, 48-Leads, Body 12x18.4mm, Pitch 0.5mm, IPC High Density)
footprint PTSA0048KA-A_M (TSSOP, 48-Leads, Body 12x18.4mm, Pitch 0.5mm, IPC Low Density)
pins: 1 A15 (in), 2 A14 (in), 3 A13 (in), 4 A12 (in), 5 A11 (in), 6 A10 (in), 7 A9 (in), 8 A8 (in), 9 A19 (in), 10 A20 (in), 11 ~{WE} (in), 12 CS2 (in), 13 NC, 14 ~{UB} (in), 15 ~{LB} (in), 16 A18 (in), 17 A17 (in), 18 A7 (in), 19 A6 (in), 20 A5 (in), 21 A4 (in), 22 A3 (in), 23 A2 (in), 24 A1 (in), 25 A0 (in), 26 ~{CS}1 (in), 27 VSS (power), 28 ~{OE} (in), 29 DQ0 (io), 30 DQ8 (io), 31 DQ1 (io), 32 DQ9 (io), 33 DQ2 (io), 34 DQ10 (io), 35 DQ3 (io), 36 DQ11 (io), 37 VCC (power), 38 DQ4 (io), 39 DQ12 (io), 40 DQ5 (io), 41 DQ13 (io), 42 DQ6 (io), 43 DQ14 (io), 44 DQ7 (io), 45 DQ15/A-1 (io), 46 VSS (power), 47 ~{BYTE} (in), 48 A16 (in)

## R1LV3216RSA-7SR
designator U?
R1LV3216R Series 32Mb Advanced LPSRAM (2M word x 16bit / 4M word x 8bit); Published: 3-Mar-2010; DatasheetVersion: Rev.1.00, May-2009; PackageVersion: Sep-2005; PackageReference: PTSA0048KA-A; Publisher: Altium Limited; PackageDescription: 48-Pin Plastic Thin Shrink Small Outline Package 0.5 mm Pitch; Code_JEITA: P-TSOP(1)48-12x18.4-0.50; ComponentLink1Description: Manufacturer Link; ComponentLink1URL: http://sg.renesas.com/products/memory/memory_category_landing.jsp; ComponentLink2Description: Datasheet; ComponentLink2URL: http://documentation.renesas.com/eng/products/memory/rej03c0367_r1lv3216rds.pdf; ComponentLink3Description: Packaging Specification; ComponentLink3URL: http://sg.renesas.com/media/products/common_info/package/pdf/ic/code/ptsa0048ka_a.pdf
footprint PTSA0048KA-A_N (TSSOP, 48-Leads, Body 12x18.4mm, Pitch 0.5mm, IPC Medium Density)
footprint PTSA0048KA-A_L (TSSOP, 48-Leads, Body 12x18.4mm, Pitch 0.5mm, IPC High Density)
footprint PTSA0048KA-A_M (TSSOP, 48-Leads, Body 12x18.4mm, Pitch 0.5mm, IPC Low Density)
pins: 1 A15 (in), 2 A14 (in), 3 A13 (in), 4 A12 (in), 5 A11 (in), 6 A10 (in), 7 A9 (in), 8 A8 (in), 9 A19 (in), 10 A20 (in), 11 ~{WE} (in), 12 CS2 (in), 13 NC, 14 ~{UB} (in), 15 ~{LB} (in), 16 A18 (in), 17 A17 (in), 18 A7 (in), 19 A6 (in), 20 A5 (in), 21 A4 (in), 22 A3 (in), 23 A2 (in), 24 A1 (in), 25 A0 (in), 26 ~{CS}1 (in), 27 VSS (power), 28 ~{OE} (in), 29 DQ0 (io), 30 DQ8 (io), 31 DQ1 (io), 32 DQ9 (io), 33 DQ2 (io), 34 DQ10 (io), 35 DQ3 (io), 36 DQ11 (io), 37 VCC (power), 38 DQ4 (io), 39 DQ12 (io), 40 DQ5 (io), 41 DQ13 (io), 42 DQ6 (io), 43 DQ14 (io), 44 DQ7 (io), 45 DQ15/A-1 (io), 46 VSS (power), 47 ~{BYTE} (in), 48 A16 (in)

## R1LV3216RSD-5SI
designator U?
R1LV3216R Series 32Mb Advanced LPSRAM (2M word x 16bit / 4M word x 8bit); Published: 3-Mar-2010; DatasheetVersion: Rev.1.00, May-2009; PackageVersion: Sep-2005; PackageReference: PTSB0052LB-A; Publisher: Altium Limited; PackageDescription: 52-Pin Thin Shrink Small Outline Package 0.4 mm Pitch; Code_JEITA: P-TSOP(2)52-8.89x10.79-0.40; ComponentLink1Description: Manufacturer Link; ComponentLink1URL: http://sg.renesas.com/products/memory/memory_category_landing.jsp; ComponentLink2Description: Datasheet; ComponentLink2URL: http://documentation.renesas.com/eng/products/memory/rej03c0367_r1lv3216rds.pdf; ComponentLink3Description: Packaging Specification; ComponentLink3URL: http://sg.renesas.com/media/products/common_info/package/pdf/ic/code/ptsb0052lb_a.pdf
footprint PTSB0052LB-A_N (TSSOP, 52-Leads, Body 10.8x8.9mm, Pitch 0.4mm, IPC Medium Density)
footprint PTSB0052LB-A_L (TSSOP, 52-Leads, Body 10.8x8.9mm, Pitch 0.4mm, IPC High Density)
footprint PTSB0052LB-A_M (TSSOP, 52-Leads, Body 10.8x8.9mm, Pitch 0.4mm, IPC Low Density)
pins: 1 A15 (in), 2 A14 (in), 3 A13 (in), 4 A12 (in), 5 A11 (in), 6 A10 (in), 7 A9 (in), 8 A8 (in), 9 A19 (in), 10 ~{CS}1 (in), 11 ~{WE} (in), 12 NC, 13 NC, 14 VCC (power), 15 CS2 (in), 16 NC, 17 A20 (in), 18 A18 (in), 19 A17 (in), 20 A7 (in), 21 A6 (in), 22 A5 (in), 23 A4 (in), 24 A3 (in), 25 A2 (in), 26 A1 (in), 27 A0 (in), 28 NC, 29 VSS (power), 30 ~{OE} (in), 31 DQ0 (io), 32 DQ8 (io), 33 DQ1 (io), 34 DQ9 (io), 35 DQ2 (io), 36 DQ10 (io), 37 DQ3 (io), 38 DQ11 (io), 39 NC, 40 DQ4 (io), 41 DQ12 (io), 42 DQ5 (io), 43 DQ13 (io), 44 DQ6 (io), 45 DQ14 (io), 46 DQ7 (io), 47 DQ15/A-1 (io), 48 ~{LB} (in), 49 VSS (power), 50 ~{UB} (in), 51 ~{BYTE} (in), 52 A16 (in)

## R1LV3216RSD-5SR
designator U?
R1LV3216R Series 32Mb Advanced LPSRAM (2M word x 16bit / 4M word x 8bit); Published: 3-Mar-2010; DatasheetVersion: Rev.1.00, May-2009; PackageVersion: Sep-2005; PackageReference: PTSB0052LB-A; Publisher: Altium Limited; PackageDescription: 52-Pin Thin Shrink Small Outline Package 0.4 mm Pitch; Code_JEITA: P-TSOP(2)52-8.89x10.79-0.40; ComponentLink1Description: Manufacturer Link; ComponentLink1URL: http://sg.renesas.com/products/memory/memory_category_landing.jsp; ComponentLink2Description: Datasheet; ComponentLink2URL: http://documentation.renesas.com/eng/products/memory/rej03c0367_r1lv3216rds.pdf; ComponentLink3Description: Packaging Specification; ComponentLink3URL: http://sg.renesas.com/media/products/common_info/package/pdf/ic/code/ptsb0052lb_a.pdf
footprint PTSB0052LB-A_N (TSSOP, 52-Leads, Body 10.8x8.9mm, Pitch 0.4mm, IPC Medium Density)
footprint PTSB0052LB-A_L (TSSOP, 52-Leads, Body 10.8x8.9mm, Pitch 0.4mm, IPC High Density)
footprint PTSB0052LB-A_M (TSSOP, 52-Leads, Body 10.8x8.9mm, Pitch 0.4mm, IPC Low Density)
pins: 1 A15 (in), 2 A14 (in), 3 A13 (in), 4 A12 (in), 5 A11 (in), 6 A10 (in), 7 A9 (in), 8 A8 (in), 9 A19 (in), 10 ~{CS}1 (in), 11 ~{WE} (in), 12 NC, 13 NC, 14 VCC (power), 15 CS2 (in), 16 NC, 17 A20 (in), 18 A18 (in), 19 A17 (in), 20 A7 (in), 21 A6 (in), 22 A5 (in), 23 A4 (in), 24 A3 (in), 25 A2 (in), 26 A1 (in), 27 A0 (in), 28 NC, 29 VSS (power), 30 ~{OE} (in), 31 DQ0 (io), 32 DQ8 (io), 33 DQ1 (io), 34 DQ9 (io), 35 DQ2 (io), 36 DQ10 (io), 37 DQ3 (io), 38 DQ11 (io), 39 NC, 40 DQ4 (io), 41 DQ12 (io), 42 DQ5 (io), 43 DQ13 (io), 44 DQ6 (io), 45 DQ14 (io), 46 DQ7 (io), 47 DQ15/A-1 (io), 48 ~{LB} (in), 49 VSS (power), 50 ~{UB} (in), 51 ~{BYTE} (in), 52 A16 (in)

## R1LV3216RSD-7SI
designator U?
R1LV3216R Series 32Mb Advanced LPSRAM (2M word x 16bit / 4M word x 8bit); Published: 3-Mar-2010; DatasheetVersion: Rev.1.00, May-2009; PackageVersion: Sep-2005; PackageReference: PTSB0052LB-A; Publisher: Altium Limited; PackageDescription: 52-Pin Thin Shrink Small Outline Package 0.4 mm Pitch; Code_JEITA: P-TSOP(2)52-8.89x10.79-0.40; ComponentLink1Description: Manufacturer Link; ComponentLink1URL: http://sg.renesas.com/products/memory/memory_category_landing.jsp; ComponentLink2Description: Datasheet; ComponentLink2URL: http://documentation.renesas.com/eng/products/memory/rej03c0367_r1lv3216rds.pdf; ComponentLink3Description: Packaging Specification; ComponentLink3URL: http://sg.renesas.com/media/products/common_info/package/pdf/ic/code/ptsb0052lb_a.pdf
footprint PTSB0052LB-A_N (TSSOP, 52-Leads, Body 10.8x8.9mm, Pitch 0.4mm, IPC Medium Density)
footprint PTSB0052LB-A_L (TSSOP, 52-Leads, Body 10.8x8.9mm, Pitch 0.4mm, IPC High Density)
footprint PTSB0052LB-A_M (TSSOP, 52-Leads, Body 10.8x8.9mm, Pitch 0.4mm, IPC Low Density)
pins: 1 A15 (in), 2 A14 (in), 3 A13 (in), 4 A12 (in), 5 A11 (in), 6 A10 (in), 7 A9 (in), 8 A8 (in), 9 A19 (in), 10 ~{CS}1 (in), 11 ~{WE} (in), 12 NC, 13 NC, 14 VCC (power), 15 CS2 (in), 16 NC, 17 A20 (in), 18 A18 (in), 19 A17 (in), 20 A7 (in), 21 A6 (in), 22 A5 (in), 23 A4 (in), 24 A3 (in), 25 A2 (in), 26 A1 (in), 27 A0 (in), 28 NC, 29 VSS (power), 30 ~{OE} (in), 31 DQ0 (io), 32 DQ8 (io), 33 DQ1 (io), 34 DQ9 (io), 35 DQ2 (io), 36 DQ10 (io), 37 DQ3 (io), 38 DQ11 (io), 39 NC, 40 DQ4 (io), 41 DQ12 (io), 42 DQ5 (io), 43 DQ13 (io), 44 DQ6 (io), 45 DQ14 (io), 46 DQ7 (io), 47 DQ15/A-1 (io), 48 ~{LB} (in), 49 VSS (power), 50 ~{UB} (in), 51 ~{BYTE} (in), 52 A16 (in)

## R1LV3216RSD-7SR
designator U?
R1LV3216R Series 32Mb Advanced LPSRAM (2M word x 16bit / 4M word x 8bit); Published: 3-Mar-2010; DatasheetVersion: Rev.1.00, May-2009; PackageVersion: Sep-2005; PackageReference: PTSB0052LB-A; Publisher: Altium Limited; PackageDescription: 52-Pin Thin Shrink Small Outline Package 0.4 mm Pitch; Code_JEITA: P-TSOP(2)52-8.89x10.79-0.40; ComponentLink1Description: Manufacturer Link; ComponentLink1URL: http://sg.renesas.com/products/memory/memory_category_landing.jsp; ComponentLink2Description: Datasheet; ComponentLink2URL: http://documentation.renesas.com/eng/products/memory/rej03c0367_r1lv3216rds.pdf; ComponentLink3Description: Packaging Specification; ComponentLink3URL: http://sg.renesas.com/media/products/common_info/package/pdf/ic/code/ptsb0052lb_a.pdf
footprint PTSB0052LB-A_N (TSSOP, 52-Leads, Body 10.8x8.9mm, Pitch 0.4mm, IPC Medium Density)
footprint PTSB0052LB-A_L (TSSOP, 52-Leads, Body 10.8x8.9mm, Pitch 0.4mm, IPC High Density)
footprint PTSB0052LB-A_M (TSSOP, 52-Leads, Body 10.8x8.9mm, Pitch 0.4mm, IPC Low Density)
pins: 1 A15 (in), 2 A14 (in), 3 A13 (in), 4 A12 (in), 5 A11 (in), 6 A10 (in), 7 A9 (in), 8 A8 (in), 9 A19 (in), 10 ~{CS}1 (in), 11 ~{WE} (in), 12 NC, 13 NC, 14 VCC (power), 15 CS2 (in), 16 NC, 17 A20 (in), 18 A18 (in), 19 A17 (in), 20 A7 (in), 21 A6 (in), 22 A5 (in), 23 A4 (in), 24 A3 (in), 25 A2 (in), 26 A1 (in), 27 A0 (in), 28 NC, 29 VSS (power), 30 ~{OE} (in), 31 DQ0 (io), 32 DQ8 (io), 33 DQ1 (io), 34 DQ9 (io), 35 DQ2 (io), 36 DQ10 (io), 37 DQ3 (io), 38 DQ11 (io), 39 NC, 40 DQ4 (io), 41 DQ12 (io), 42 DQ5 (io), 43 DQ13 (io), 44 DQ6 (io), 45 DQ14 (io), 46 DQ7 (io), 47 DQ15/A-1 (io), 48 ~{LB} (in), 49 VSS (power), 50 ~{UB} (in), 51 ~{BYTE} (in), 52 A16 (in)

## R1RP0404DGE-2LR
designator U?
R1RP0404D Series 4M High Speed SRAM (1-Mword × 4-bit); Published: 3-Mar-2010; DatasheetVersion: Rev.1.00, Mar-2004; PackageVersion: Sep-2005; PackageReference: PRSJ0032DA-A; Publisher: Altium Limited; PackageDescription: 32-Pin Small Outline J-Lead, 10.16 mm Body Width, 1.27 mm Pitch; Code_JEITA: P-SOJ32-10.16x20.85-1.27; ComponentLink1Description: Manufacturer Link; ComponentLink1URL: http://sg.renesas.com/products/memory/memory_category_landing.jsp; ComponentLink2Description: Datasheet; ComponentLink2URL: http://documentation.renesas.com/eng/products/memory/rej03c0116_r1rp0404d.pdf; ComponentLink3Description: Packaging Specification; ComponentLink3URL: http://sg.renesas.com/media/products/common_info/package/pdf/ic/code/prsj0032da_a.pdf
footprint PRSJ0032DA-A_N (SOJ, 32-Leads, Body 21 x 10.16 mm, Pitch 1.27mm, IPC Medium Density)
footprint PRSJ0032DA-A_L (SOJ, 32-Leads, Body 21 x 10.16 mm, Pitch 1.27mm, IPC High Density)
footprint PRSJ0032DA-A_M (SOJ, 32-Leads, Body 21 x 10.16 mm, Pitch 1.27mm, IPC Low Density)
pins: 1 A0 (in), 2 A1 (in), 3 A2 (in), 4 A3 (in), 5 A4 (in), 6 ~{CS} (in), 7 I/O1 (io), 8 VCC (power), 9 VSS (power), 10 I/O2 (io), 11 ~{WE} (in), 12 A5 (in), 13 A6 (in), 14 A7 (in), 15 A8 (in), 16 A9 (in), 17 NC, 18 A10 (in), 19 A11 (in), 20 A12 (in), 21 A13 (in), 22 A14 (in), 23 I/O3 (io), 24 VCC (power), 25 VSS (power), 26 I/O4 (io), 27 ~{OE} (in), 28 A15 (in), 29 A16 (in), 30 A17 (in), 31 A18 (in), 32 A19 (in)